# Altium schematic symbol library C0805C475J4RACAUTO.SchLib: 1 symbol
Pins are listed as number, name and electrical type; pins without a type are passive.

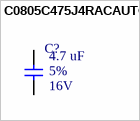
[diagram p0: symbol C0805C475J4RACAUTO]

## C0805C475J4RACAUTO
designator C?  Rated Voltage: 16V  Tolerance: 5%  Capacitence: 4.7 uF  (hidden comment: C0805C475J4RACAUTO)
CAP CER 4.7UF 16V X7R 0805; MFR: KEMET; PN: C0805C475J4RACAUTO; ComponentLink1Description: Datasheet; ComponentLink1URL: https://api.kemet.com/component-edge/download/datasheet/C0805C475J4RACAUTO.pdf; Temperature Coefficient: X7R; Package: 0805; Footprint: C0805; Supplier 1: Digi-Key; Supplier Part Number 1: 399-15716-1-ND
footprint C0805 (A generic C0805 footprint)
pins: 1, 2